# EAGLE library part ADXL337 (library SpaceDIY_IC)
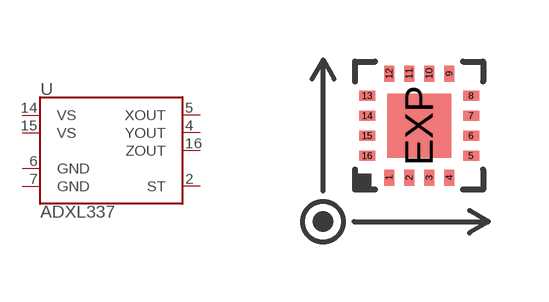
[diagram p2: symbol with the pads of LFCSP-3X3; footprint LFCSP-3X3]

Designator prefix -

## ADXL337  [LFCSP-3X3]
2  ST
4  YOUT
5  XOUT
6  GND
7  GND
14  VS
15  VS
16  ZOUT

## Footprint LFCSP-3X3 (pad centres in mm)
smd 0.25 x 0.4: 1 -0.75,-1.3; 2 -0.25,-1.3; 3 0.25,-1.3; 4 0.75,-1.3; 9 0.75,1.3; 10 0.25,1.3; 11 -0.25,1.3; 12 -0.75,1.3
smd 0.4 x 0.25: 5 1.3,-0.75; 6 1.3,-0.25; 7 1.3,0.25; 8 1.3,0.75; 13 -1.3,0.75; 14 -1.3,0.25; 15 -1.3,-0.25; 16 -1.3,-0.75
smd 1.6 x 1.6: EXP 0,0